# Altium footprint library PCB封装库.PcbLib: 17 footprints (part 1 of 2)
Each footprint in its own frame and in the unit in brackets; x right, y up, seen from the top. Pads: shape width x height; smd on the part's side, far side on the other; paste and mask are expansions set on the pad; w line width, h text height; cw(c..) or ccw(c..) is an arc to the next point about the centre after c.
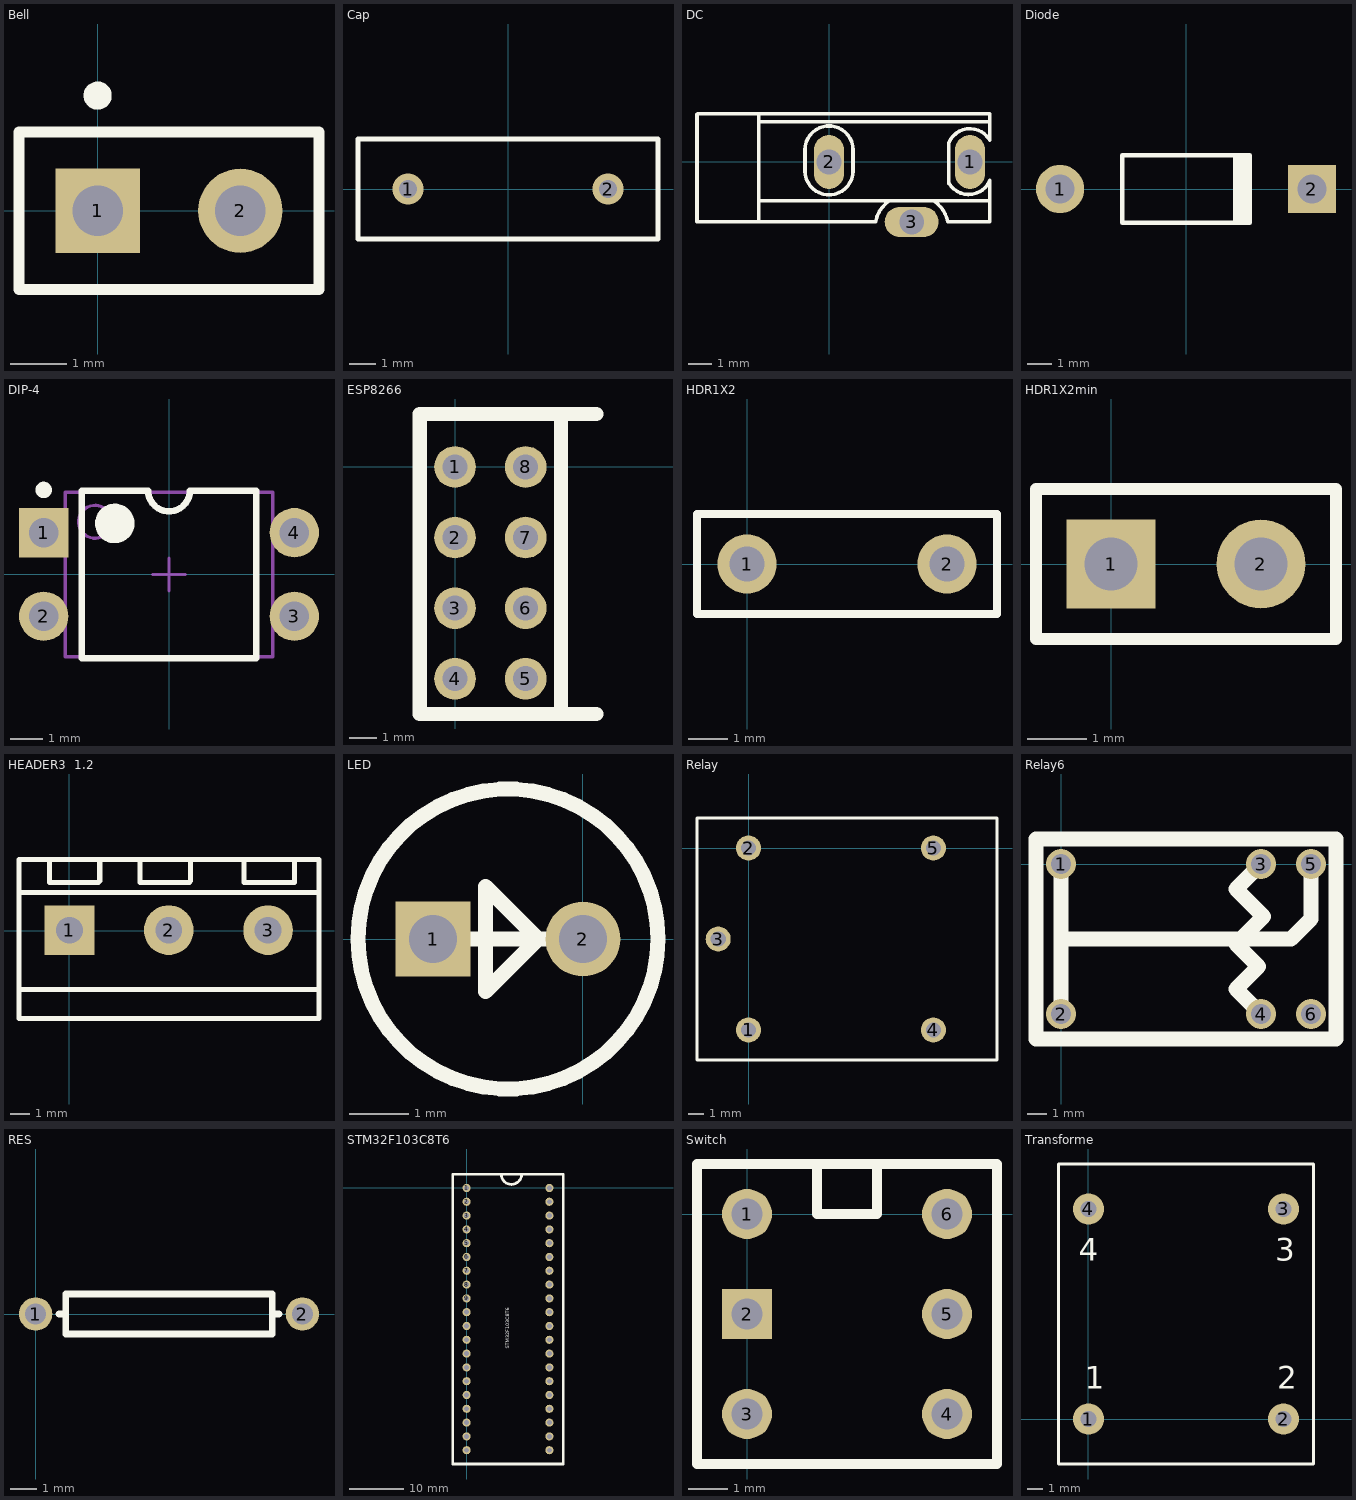
[diagram p0: the footprints below, top view; thin cyan lines are the x and y axes]

## Bell [mm]
pads (2):
  rect 1.5x1.5 hole 0.9: 1(0,0)
  round 1.5 hole 0.9: 2(2.54,0)
Top Overlay:
  circle w0.25: c0,2.05 r0.125
  lines w0.2: -1.4,-1.4 3.94,-1.4 3.94,1.4 -1.4,1.4 -1.4,-1.4

## Cap [mm]
pads (2):
  round 1.2 hole 0.7: 1(-3.81,0) 2(3.81,0)
Top Overlay:
  lines w0.2: -5.715,-1.905 5.715,-1.905 5.715,1.905 -5.715,1.905 -5.715,-1.905

## DC [mm]
pads (3):
  oval 1.27x2.286 hole 1.05: 1(5.969,0) 2(0,0)
  oval 2.286x1.27 hole 1.05: 3(3.5,-2.54)
Top Overlay:
  lines w0.152: -2.972,-1.651 -1.519,-1.651 6.807,-1.651 6.807,-0.789 cw(c5.917,-0.417) 5.075,-0.889 ; -2.972,1.702 0.841,1.702 6.807,1.702 ; 1.971,-2.54 -2.972,-2.54 ; 1.971,-2.503 cw(c3.405,-2.845) 2.54,-1.651 ; 4.445,-1.651 cw(c3.593,-2.854) 5.032,-2.536 ; 5.032,-2.54 6.807,-2.54 ; 5.075,-0.914 5.075,0.815 cw(c5.965,0.442) 6.807,0.914 6.807,1.702 ; 6.807,-2.489 6.807,-1.6 ; -2.972,-2.54 -5.588,-2.54 -5.588,1.62 -5.588,2.007 -5.563,2.032 -2.972,2.032 ; -2.972,-2.54 -2.972,1.524 -2.972,2.032 ; -2.972,2.032 6.807,2.032 6.807,1.702 ; -1.016,-0.381 ccw(c0,-0.381) 1.016,-0.381 1.016,0.508 ccw(c0,0.508) -1.016,0.508 -1.016,-0.381

## Diode [mm]
pads (2):
  round 2 hole 1.2: 1(-5.23,0)
  rect 2x2 hole 1.2: 2(5.23,0)
Top Overlay:
  rectangle: 1.95,-1.4 2.75,1.4
  lines w0.2: 2.65,-1.4 -2.65,-1.4 -2.65,1.4 2.65,1.4

## DIP-4 [mm]
pads (4):
  rect 1.5x1.5 hole 0.9: 1(-3.81,1.27)
  round 1.5 hole 0.9: 2(-3.81,-1.27) 3(3.81,-1.27) 4(3.81,1.27)
Top Overlay:
  circle w0.6: c-1.65,1.55 r0.3
  circle w0.25: c-3.81,2.57 r0.125
  lines w0.2: -2.65,-2.55 2.65,-2.55 2.65,2.55 0.635,2.55 cw(c0,2.55) -0.635,2.55 -2.65,2.55 -2.65,-2.55
Mechanical 13:
  circle w0.1: c-2.25,1.6 r0.5
  lines w0.1: -3.15,-2.5 3.15,-2.5 3.15,2.5 -3.15,2.5 -3.15,-2.5
Mechanical 15:
  lines w0.1: -0.5,0 0.5,0 ; 0,-0.5 0,0.5
3D body: height 5.6, standoff 0, extent -3.15,-2.5 3.15,2.5

## ESP8266 [mm]
pads (8):
  round 1.5 hole 0.9: 1(0,0) 2(0,-2.54) 3(0,-5.08) 4(0,-7.62) 5(2.54,-7.62) 6(2.54,-5.08) 7(2.54,-2.54) 8(2.54,0)
Top Overlay:
  lines w0.508: 3.556,1.905 5.08,1.905 ; 5.08,-8.89 3.81,-8.89 ; 3.81,-8.89 -1.27,-8.89 -1.27,1.905 -0.635,1.905 3.81,1.905 3.81,-8.89

## HDR1X2 [mm] "Connector; Header; 3 Position"
pads (2):
  round 1.5 hole 0.9: 1(0,0) 2(5.08,0)
Top Overlay:
  lines w0.2: -1.27,-1.27 6.35,-1.27 6.35,1.27 -1.27,1.27 -1.27,-1.27

## HDR1X2min [mm]
pads (2):
  rect 1.5x1.5 hole 0.9: 1(0,0)
  round 1.5 hole 0.9: 2(2.54,0)
Top Overlay:
  lines w0.2: -1.27,-1.27 -1.27,1.27 3.81,1.27 3.81,-1.27 -1.27,-1.27

## HEADER3  1.2 [mm]
pads (3):
  rect 2.5x2.5 hole 1.35: 1(0.004,0.025)
  round 2.5 hole 1.35: 2(5.004,0.025) 3(10.008,0.025)
Top Overlay:
  lines w0.254: -2.54,1.93 12.548,1.93 ; -2.536,-2.975 12.573,-2.975 ; -1.012,2.438 1.465,2.438 1.528,2.501 1.528,3.581 ; -1.012,2.501 -1.012,3.581 ; 3.56,3.518 3.56,2.438 6.06,2.438 ; 6.1,2.501 6.1,3.581 ; 8.792,3.442 8.792,2.439 8.814,2.438 11.328,2.438 11.332,2.439 11.332,3.505 ; -2.536,-4.42 -2.536,3.581 12.573,3.581 12.573,-4.42 -2.536,-4.42

## LED [mil]
pads (2):
  rect 50x50 hole 32: 1(-100,0)
  round 50 hole 32: 2(0,0)
Top Overlay:
  circle w10: c-50,0 r100.11
  lines w10: -85,0 -20,0 ; -65,-35 -30,0 -65,35 -65,20 -65,-35

## Relay [mm]
pads (5):
  round 1.65 hole 1: 1(0,-12) 2(0,0) 3(-2,-6) 4(12.2,-12) 5(12.2,0)
Top Overlay:
  lines w0.2: -3.4,-14 -3.4,2 16.4,2 16.4,-14 -3.4,-14
Mechanical 13:
  lines w0.1: -3.4,-14 -3.4,2 16.4,2 16.4,-14 -3.4,-14
3D body: height 14, standoff 0, extent -3.429,-13.97 16.383,2.032

## Relay6 [mil]
pads (6):
  round 60 hole 40: 1(0,0) 2(0,-300) 3(400,0) 4(400,-300) 5(500,0) 6(500,-300)
Top Overlay:
  lines w30: 0,-300 0,0 ; 0,-150 220,-150 270,-150 295,-150 460,-150 500,-110 500,0 ; 400,-300 350,-250 395,-205 350,-160 405,-105 350,-50 400,0 ; -50,-350 -50,50 550,50 550,-350 -50,-350

## RES [mm]
pads (2):
  round 1.27 hole 0.8: 1(0,0) 2(10.16,0)
Top Overlay:
  lines w0.254: 0.889,0 1.143,0 ; 9.017,0 9.271,0 ; 1.143,-0.762 1.143,0.762 9.017,0.762 9.017,-0.762 1.143,-0.762

## STM32F103C8T6 [mm]
pads (40):
  round 1.5 hole 0.9: 1(0,0) 2(0,-2.54) 3(0,-5.08) 4(0,-7.62) 5(0,-10.16) 6(0,-12.7) 7(0,-15.24) 8(0,-17.78) 9(0,-20.32) 10(0,-22.86) 11(0,-25.4) 12(0,-27.94) 13(0,-30.48) 14(0,-33.02) 15(0,-35.56) 16(0,-38.1) 17(0,-40.64) 18(0,-43.18) 19(0,-45.72) 20(0,-48.26) 21(15.24,-48.26) 22(15.24,-45.72) 23(15.24,-43.18) 24(15.24,-40.64) 25(15.24,-38.1) 26(15.24,-35.56) 27(15.24,-33.02) 28(15.24,-30.48) 29(15.24,-27.94) 30(15.24,-25.4) 31(15.24,-22.86) 32(15.24,-20.32) 33(15.24,-17.78) 34(15.24,-15.24) 35(15.24,-12.7) 36(15.24,-10.16) 37(15.24,-7.62) 38(15.24,-5.08) 39(15.24,-2.54) 40(15.24,0)
Top Overlay:
  lines w0.508: 6.385,2.406 ccw(c8.255,2.54) 10.126,2.415 ; -2.54,-50.8 -2.54,0.381 -2.54,2.54 17.78,2.54 17.78,-50.419 17.78,-50.8 -2.54,-50.8
  text "STM32F103C8T6" at 8.128,-29.591 h1.2

## Switch [mm]
pads (6):
  round 1.27 hole 0.8: 1(0,0) 3(0,-5.08) 4(5.08,-5.08) 5(5.08,-2.54) 6(5.08,0)
  rect 1.27x1.27 hole 0.8: 2(0,-2.54)
Top Overlay:
  lines w0.254: 1.778,1.245 1.778,0 3.302,0 3.302,1.219 ; -1.27,-6.35 -1.27,1.27 6.35,1.27 6.35,-6.35 -1.27,-6.35

## Transforme [mil]
pads (4):
  round 82 hole 42: 1(0,0) 2(511.81,0) 3(511.81,551.18) 4(0,551.18)
Top Overlay:
  lines w8: -78.74,-118.11 590.55,-118.11 590.55,669.29 -78.74,669.29 -78.74,-118.11
  text "3" at 490,415 h59.06
  text "4" at -25,415 h59.06
  text "2" at 495,80 h59.06
  text "1" at -10,80 h59.06